# Altium footprint library PcbLib1.PcbLib: 35 footprints (part 1 of 3)
Each footprint in its own frame and in the unit in brackets; x right, y up, seen from the top. Pads: shape width x height; smd on the part's side, far side on the other; paste and mask are expansions set on the pad; w line width, h text height; cw(c..) or ccw(c..) is an arc to the next point about the centre after c.
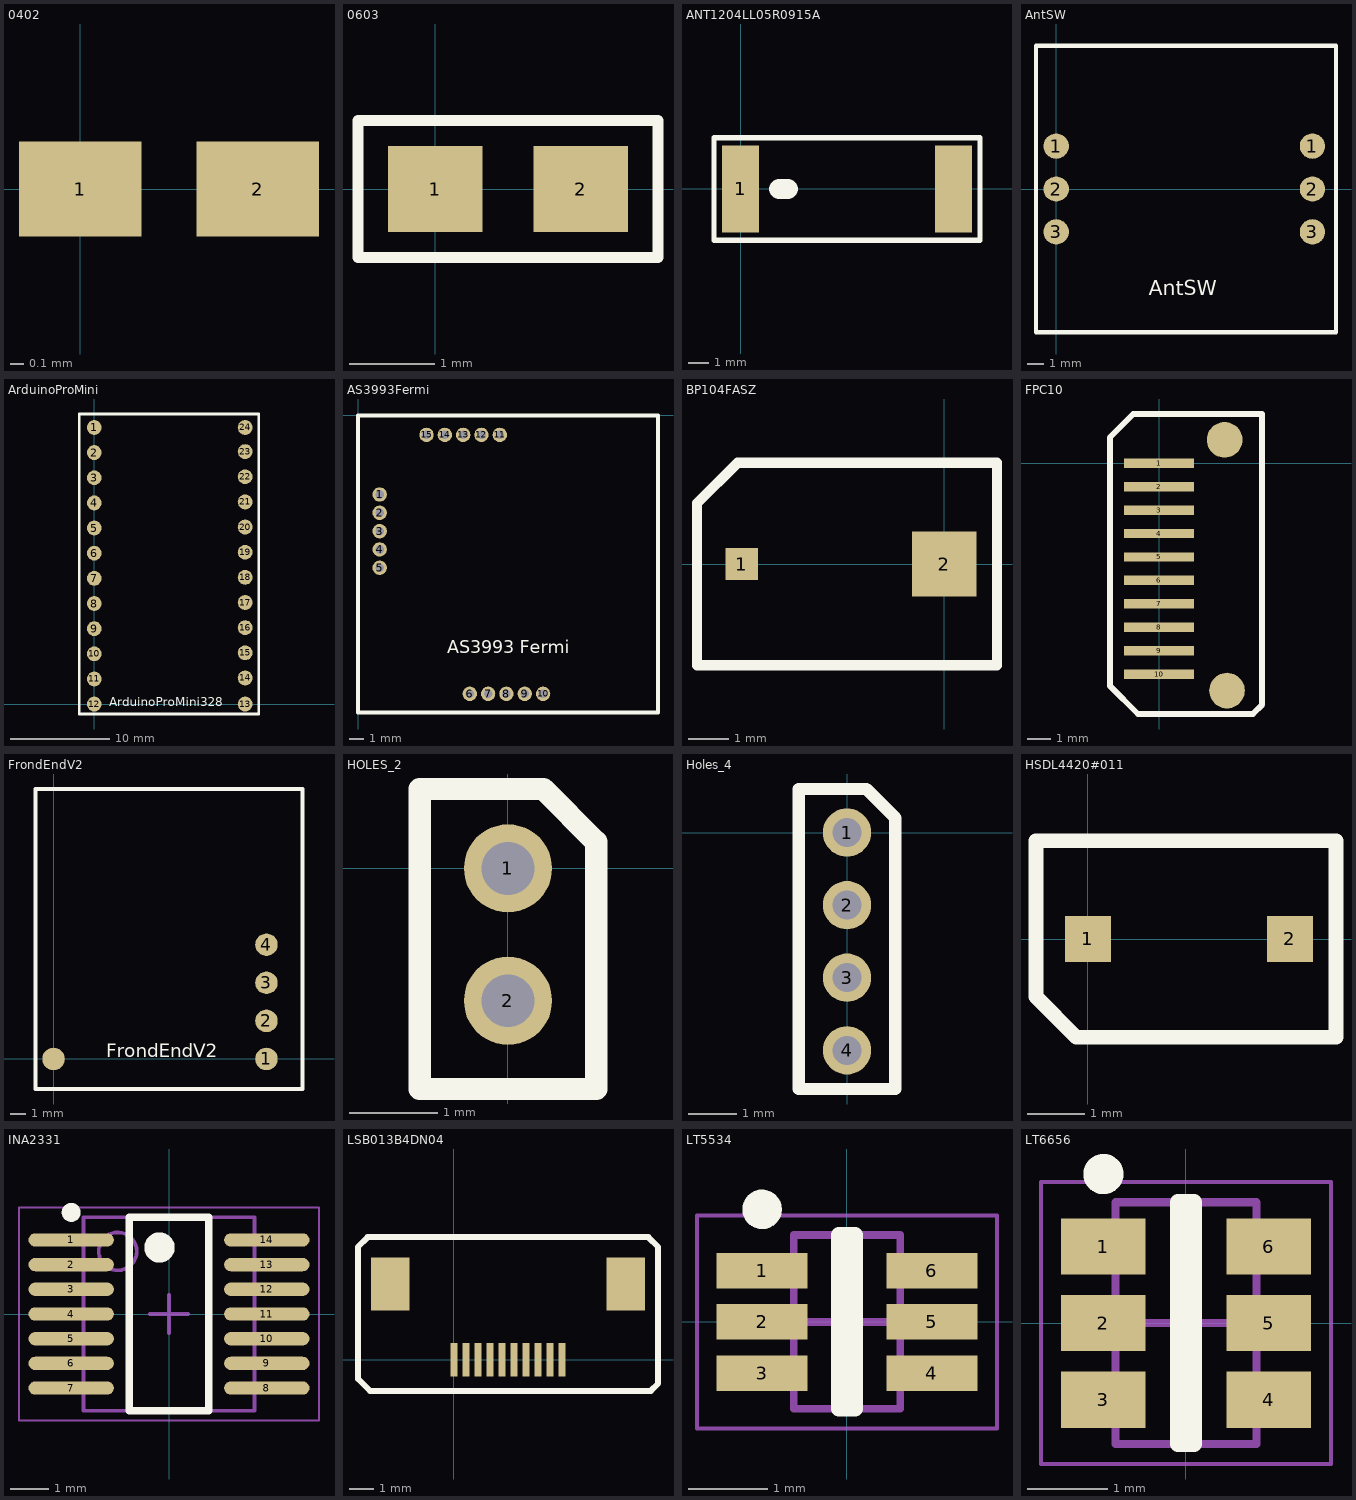
[diagram p0: the footprints below, top view; thin cyan lines are the x and y axes]

## 0402 [mm]
pads (2):
  rect 0.9x0.7 smd: 1(0,0) 2(1.3,0)

## 0603 [mm]
pads (2):
  rect 1.1x1 smd: 1(0,0) 2(1.7,0)
Top Overlay:
  lines w0.127: -0.9,-0.8 -0.9,0.8 2.6,0.8 2.6,-0.8 -0.9,-0.8

## ANT1204LL05R0915A [mm]
height 1.6
pads (2):
  rect 1.8x4.25 smd: 1(0,0) ""(10.4,0)
Top Overlay:
  lines w0.254: -1.3,-2.5 -1.3,2.5 11.7,2.5 11.7,-2.5 -1.3,-2.5
  lines w1: 1.9,0 2.3,0

## AntSW [mm]
pads (6):
  round 1.5 smd: 1(0,2.54) 1(15.2,2.54) 2(0,0) 2(15.2,0) 3(0,-2.54) 3(15.2,-2.54)
Top Overlay:
  lines w0.254: -1.2,-8.5 -1.2,8.5 16.6,8.5 16.6,-8.5 -1.2,-8.5
  text "AntSW" at 5.5,-6.6 h1.52

## ArduinoProMini [mm]
height 2
pads (24):
  round 1.5 smd: 1(0,27.94) 2(0,25.4) 3(0,22.86) 4(0,20.32) 5(0,17.78) 6(0,15.24) 7(0,12.7) 8(0,10.16) 9(0,7.62) 10(0,5.08) 11(0,2.54) 12(0,0) 13(15.24,0) 14(15.24,2.64) 15(15.24,5.18) 16(15.24,7.72) 17(15.24,10.26) 18(15.24,12.8) 19(15.24,15.34) 20(15.24,17.88) 21(15.24,20.42) 22(15.24,22.96) 23(15.24,25.5) 24(15.24,27.94)
Top Overlay:
  lines w0.254: -1.5,-1 -1.5,29.3 16.6,29.3 16.6,-1 -1.5,-1
  text "ArduinoProMini328" at 1.5,-0.5 h1.52

## AS3993Fermi [mm]
height 2
pads (15):
  round 1 hole 0.6: 1(1.5,-5.48) 2(1.5,-6.75) 3(1.5,-8.02) 4(1.5,-9.29) 5(1.5,-10.56) 6(7.75,-19.3) 7(9.02,-19.3) 8(10.29,-19.3) 9(11.56,-19.3) 10(12.83,-19.3) 11(9.83,-1.35) 12(8.56,-1.35) 13(7.29,-1.35) 14(6.02,-1.35) 15(4.75,-1.35)
Top Overlay:
  lines w0.254: 0,-20.6 0,0 20.8,0 20.8,-20.6 0,-20.6
  text "AS3993 Fermi" at 6.2,-16.8 h1.52

## BP104FASZ [mm]
pads (2):
  rect 0.8x0.8 smd: 1(-5,0)
  rect 1.6x1.6 smd: 2(0,0)
Top Overlay:
  lines w0.254: -6.1,-2.5 1.3,-2.5 1.3,2.5 -5.1,2.5 -6.1,1.5 -6.1,-2.5

## FPC10 [mm]
pads (12):
  rect 3x0.4 smd: 1(0,0) 2(0,-1) 3(0,-2) 4(0,-3) 5(0,-4) 6(0,-5) 7(0,-6) 8(0,-7) 9(0,-8) 10(0,-9)
  round 1.524 smd: ""(2.8,1) ""(2.9,-9.7)
Top Overlay:
  lines w0.254: -2.1,-9.5 -0.9,-10.7 4,-10.7 4.4,-10.3 4.4,2.1 -1.1,2.1 -2.1,1.1 -2.1,-0.5 -2.1,-9.5

## FrondEndV2 [mm]
pads (5):
  round 1.5 smd: 1(14.2,0) 2(14.2,2.54) 3(14.2,5.08) 4(14.2,7.62) ""(0,0)
Top Overlay:
  lines w0.254: -1.2,-2 16.6,-2 16.6,18 -1.2,18 -1.2,-2
  text "FrondEndV2" at 3.5,-0.2 h1.52

## HOLES_2 [mm]
pads (2):
  round 1 hole 0.6: 1(0,0) 2(0,-1.5)
Top Overlay:
  lines w0.254: -1,-2.5 1,-2.5 1,0.3 0.4,0.9 -1,0.9 -1,-2.5

## Holes_4 [mm]
pads (4):
  round 1 hole 0.6: 1(0,0) 2(0,-1.5) 3(0,-3) 4(0,-4.5)
Top Overlay:
  lines w0.254: -1,-5.3 -1,0.9 0.4,0.9 1,0.3 1,-5.3 -1,-5.3

## HSDL4420#011 [mm]
pads (2):
  rect 0.8x0.8 smd: 1(0,0) 2(3.5,0)
Top Overlay:
  lines w0.254: -0.9,-1 -0.9,1.7 4.3,1.7 4.3,-1.7 -0.2,-1.7 -0.9,-1

## INA2331 [mm] "TSOP, 14-Leads, Body 5.00x4.40mm, Pitch 0.65mm, IPC Medium Density"
height 1.2
pads (14):
  oval 2.25x0.35 smd: 1(-2.575,1.95) 2(-2.575,1.3) 3(-2.575,0.65) 4(-2.575,0) 5(-2.575,-0.65) 6(-2.575,-1.3) 7(-2.575,-1.95) 8(2.575,-1.95) 9(2.575,-1.3) 10(2.575,-0.65) 11(2.575,0) 12(2.575,0.65) 13(2.575,1.3) 14(2.575,1.95)
Top Overlay:
  circle w0.4: c-0.25,1.75 r0.2
  circle w0.25: c-2.575,2.675 r0.125
  lines w0.2: -1.05,-2.55 1.05,-2.55 1.05,2.55 -1.05,2.55 -1.05,-2.55
Mechanical 13:
  circle w0.1: c-1.35,1.65 r0.5
  lines w0.1: -2.25,-2.55 2.25,-2.55 2.25,2.55 -2.25,2.55 -2.25,-2.55
Mechanical 15:
  lines w0.05: -3.95,-2.8 3.95,-2.8 3.95,2.8 -3.95,2.8 -3.95,-2.8
  lines w0.1: -0.5,0 0.5,0 ; 0,-0.5 0,0.5
3D body: height 1.2, standoff 0.1, extent -2.25,-2.55 2.25,2.55

## LSB013B4DN04 [mm]
pads (12):
  rect 0.3x1.4 smd: 1(0,0) 2(0.5,0) 3(1,0) 4(1.5,0) 5(2,0) 6(2.5,0) 7(3,0) 8(3.5,0) 9(4,0) 10(4.5,0)
  rect 1.6x2.2 smd: ""(-2.65,3.15) ""(7.15,3.15)
Top Overlay:
  lines w0.254: -4,-0.8 -3.5,-1.3 8.2,-1.3 8.5,-1 8.5,4.7 8.1,5.1 -3.6,5.1 -4,4.7 -4,-0.8

## LT5534 [mm] "SOT23, 6-Leads, Body 2.00x2.55mm, Pitch 0.65mm, IPC Medium Density"
height 1.1
pads (6):
  rect 1.15x0.45 smd: 1(-1.075,0.65) 2(-1.075,0) 3(-1.075,-0.65) 4(1.075,-0.65) 5(1.075,0) 6(1.075,0.65)
Top Overlay:
  circle w0.25: c-1.075,1.425 r0.125
  lines w0.2: -0.1,-1.1 0.1,-1.1 0.1,1.1 -0.1,1.1 -0.1,-1.1
Mechanical 13:
  lines w0.1: -0.675,-1.1 -0.675,1.1 0.675,1.1 0.675,-1.1 -0.675,-1.1
Mechanical 15:
  lines w0.05: -1.9,-1.35 -1.9,1.35 1.9,1.35 1.9,-1.35 -1.9,-1.35
  lines w0.1: -0.5,0 0.5,0 ; 0,-0.5 0,0.5
3D body: height 1.1, standoff 0.05, extent -0.675,-1.1 0.675,1.1

## LT6656 [mm] "SOT23, 6-Leads, Body 2.90x2.45mm, Pitch 0.95mm, IPC Medium Density"
height 1.1
pads (6):
  rect 1.05x0.7 smd: 1(-1.025,0.95) 2(-1.025,0) 3(-1.025,-0.95) 4(1.025,-0.95) 5(1.025,0) 6(1.025,0.95)
Top Overlay:
  circle w0.25: c-1.025,1.85 r0.125
  lines w0.2: -0.1,-1.5 0.1,-1.5 0.1,1.5 -0.1,1.5 -0.1,-1.5
Mechanical 13:
  lines w0.1: -0.875,-1.5 -0.875,1.5 0.875,1.5 0.875,-1.5 -0.875,-1.5
Mechanical 15:
  lines w0.05: -1.8,-1.75 -1.8,1.75 1.8,1.75 1.8,-1.75 -1.8,-1.75
  lines w0.1: -0.5,0 0.5,0 ; 0,-0.5 0,0.5
3D body: height 1.1, standoff 0.05, extent -0.875,-1.5 0.875,1.5